# EAGLE library part NPDS-9007-020 (library APDS)
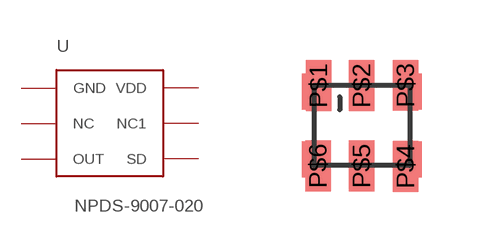
[diagram p0: symbol with the pads of APDS-9007; footprint APDS-9007]

Designator prefix -

## NPDS-9007-020  [APDS-9007]
P$1  GND
P$2  NC  nc
P$3  OUT
P$4  VDD
P$5  NC1  nc
P$6  SD

## Footprint APDS-9007 (pad centres in mm)
smd 0.635 x 1.27: P$1 -2.28,2; P$2 -1.2,2; P$3 -0.1,2.01; P$4 -0.1,-0.02; P$5 -1.2,-0.01; P$6 -2.29,-0.01